# EAGLE library part SEEED_A207_V2 (library Seeed_A203_V2)
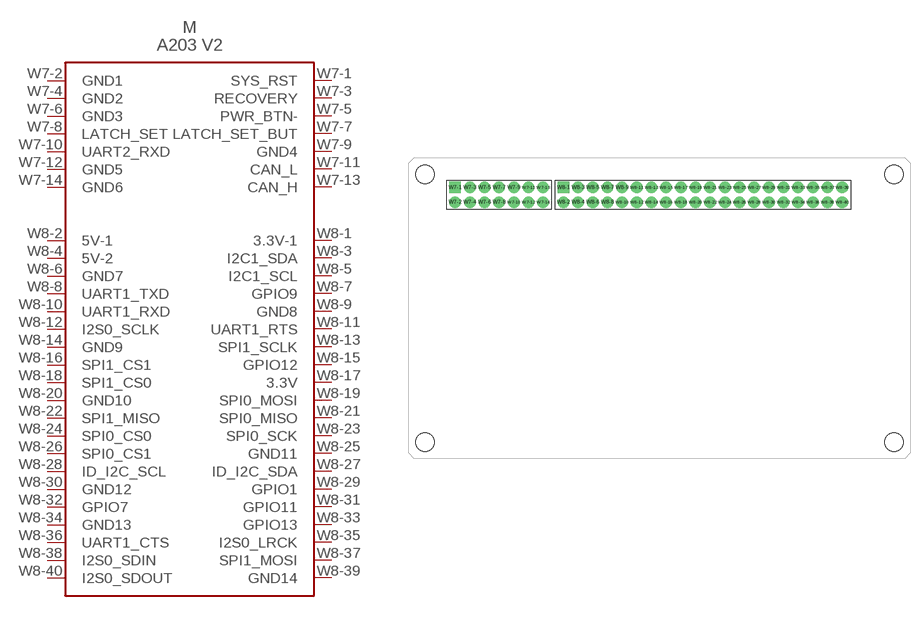
[diagram p0: symbol with the pads of SEEED_A203_V2; footprint SEEED_A203_V2]

Designator prefix M

## SEEED_A207_V2  [SEEED_A203_V2]
W7-1  SYS_RST
W7-2  GND1
W7-3  RECOVERY
W7-4  GND2
W7-5  PWR_BTN-
W7-6  GND3
W7-7  LATCH_SET_BUT
W7-8  LATCH_SET
W7-9  GND4
W7-10  UART2_RXD
W7-11  CAN_L
W7-12  GND5
W7-13  CAN_H
W7-14  GND6
W8-1  3.3V-1
W8-2  5V-1
W8-3  I2C1_SDA
W8-4  5V-2
W8-5  I2C1_SCL
W8-6  GND7
W8-7  GPIO9
W8-8  UART1_TXD
W8-9  GND8
W8-10  UART1_RXD
W8-11  UART1_RTS
W8-12  I2S0_SCLK
W8-13  SPI1_SCLK
W8-14  GND9
W8-15  GPIO12
W8-16  SPI1_CS1
W8-17  3.3V
W8-18  SPI1_CS0
W8-19  SPI0_MOSI
W8-20  GND10
W8-21  SPI0_MISO
W8-22  SPI1_MISO
W8-23  SPI0_SCK
W8-24  SPI0_CS0
W8-25  GND11
W8-26  SPI0_CS1
W8-27  ID_I2C_SDA
W8-28  ID_I2C_SCL
W8-29  GPIO1
W8-30  GND12
W8-31  GPIO11
W8-32  GPIO7
W8-33  GPIO13
W8-34  GND13
W8-35  I2S0_LRCK
W8-36  UART1_CTS
W8-37  SPI1_MOSI
W8-38  I2S0_SDIN
W8-39  GND14
W8-40  I2S0_SDOUT

## Footprint SEEED_A203_V2 (pad centres in mm)
drill 1 pad 2 square: W7-1 -35.375,20.9; W8-1 -16.635,20.9
drill 1 pad 2: W7-2 -35.375,18.36; W7-3 -32.835,20.9; W7-4 -32.835,18.36; W7-5 -30.295,20.9; W7-6 -30.295,18.36; W7-7 -27.755,20.9; W7-8 -27.755,18.36; W7-9 -25.215,20.9; W7-10 -25.215,18.36; W7-11 -22.675,20.9; W7-12 -22.675,18.36; W7-13 -20.135,20.9; W7-14 -20.135,18.36; W8-2 -16.635,18.36; W8-3 -14.095,20.9; W8-4 -14.095,18.36; W8-5 -11.555,20.9; W8-6 -11.555,18.36; W8-7 -9.015,20.9; W8-8 -9.015,18.36; W8-9 -6.475,20.9; W8-10 -6.475,18.36; W8-11 -3.935,20.9; W8-12 -3.935,18.36; W8-13 -1.395,20.9; W8-14 -1.395,18.36; W8-15 1.145,20.9; W8-16 1.145,18.36; W8-17 3.685,20.9; W8-18 3.685,18.36; W8-19 6.225,20.9; W8-20 6.225,18.36; W8-21 8.765,20.9; W8-22 8.765,18.36; W8-23 11.305,20.9; W8-24 11.305,18.36; W8-25 13.845,20.9; W8-26 13.845,18.36; W8-27 16.385,20.9; W8-28 16.385,18.36; W8-29 18.925,20.9; W8-30 18.925,18.36; W8-31 21.465,20.9; W8-32 21.465,18.36; W8-33 24.005,20.9; W8-34 24.005,18.36; W8-35 26.545,20.9; W8-36 26.545,18.36; W8-37 29.085,20.9; W8-38 29.085,18.36; W8-39 31.625,20.9; W8-40 31.625,18.36
hole 3.2 at -40.6,23.2
hole 3.2 at 40.6,23.2
hole 3.2 at -40.6,-23.2
hole 3.2 at 40.6,-23.2